# Altium footprint library Smart_DCDC.PCBLIB: 15 footprints
Each footprint in its own frame and in the unit in brackets; x right, y up, seen from the top. Pads: shape width x height; smd on the part's side, far side on the other; paste and mask are expansions set on the pad; w line width, h text height; cw(c..) or ccw(c..) is an arc to the next point about the centre after c.
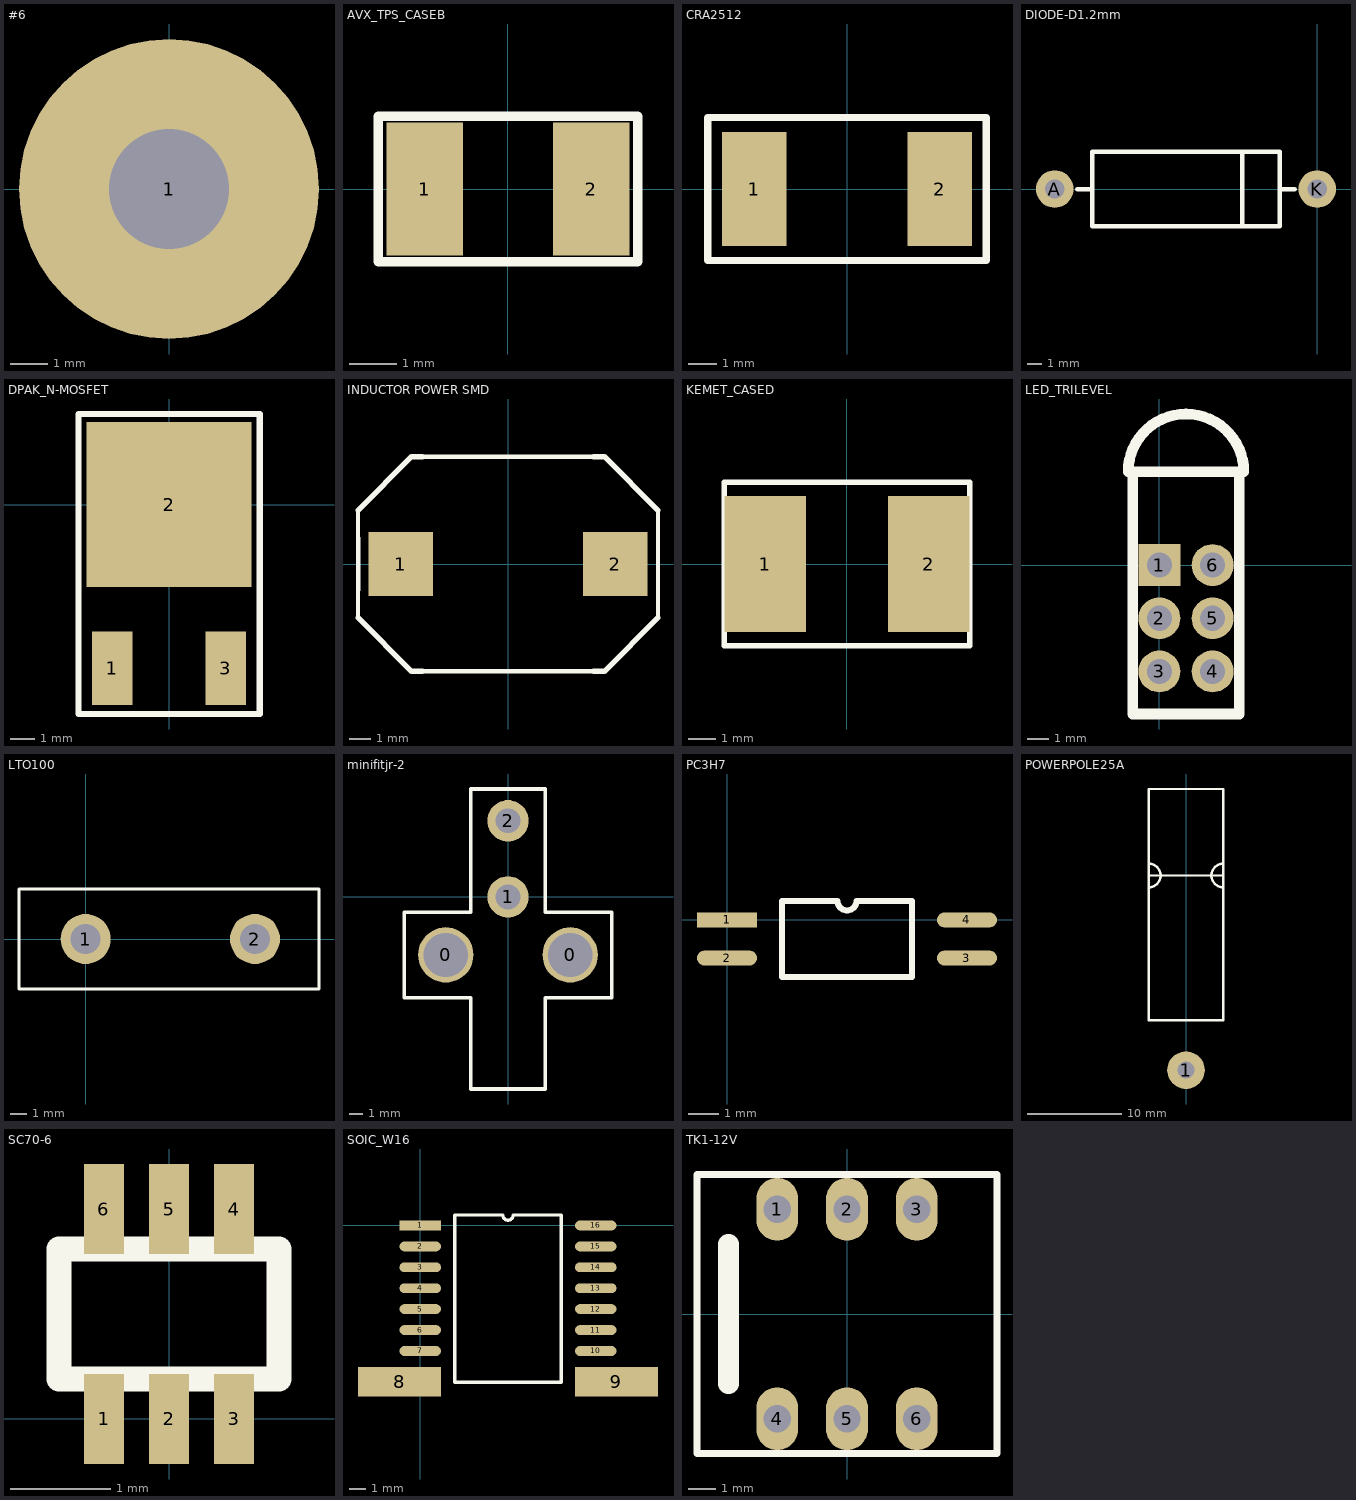
[diagram p0: the footprints below, top view; thin cyan lines are the x and y axes]

## #6 [mm]
pads (1):
  round 8 hole 3.2: 1(0,0)

## AVX_TPS_CASEB [mm]
pads (2):
  rect 1.6x2.8 smd: 1(-1.75,0) 2(1.75,0)
Top Overlay:
  lines w0.2: -2.728,-1.524 -2.728,0 -2.728,1.524 2.728,1.524 2.728,-1.524 -2.728,-1.524

## CRA2512 [mil]
pads (2):
  rect 90x160 smd: 1(-130,0) 2(130,0)
Top Overlay:
  lines w10: -195,-100 195,-100 195,100 -195,100 -195,0 -195,-100

## DIODE-D1.2mm [mm]
pads (2):
  round 2.54 hole 1.3: A(-17.78,0) K(0,0)
Top Overlay:
  lines w0.305: -16.256,0 -15.24,0 ; -5.08,-2.54 -5.08,2.54 ; -2.54,0 -1.524,0 ; -15.24,-2.54 -15.24,2.54 -2.54,2.54 -2.54,-2.54 -15.24,-2.54

## DPAK_N-MOSFET [mm] "STD12NF06L"
height 2
pads (3):
  rect 1.65x3 smd: 1(-2.3,-6.65) 3(2.3,-6.65)
  rect 6.7x6.7 smd: 2(0,0)
Top Overlay:
  lines w0.254: -3.683,-8.509 -3.683,3.683 3.683,3.683 3.683,-8.509 -3.683,-8.509

## INDUCTOR POWER SMD [mm]
pads (2):
  rect 3x3 smd: 1(-5,0) 2(5,0)
Top Overlay:
  lines w0.2: -6.992,-2.5 -6.985,0 -6.992,2.5 ; -4,-5 4,-5 ; -4,5 4,5 ; 6.992,-2.5 6.992,2.5
  lines w0.254: -6.992,-2.5 -4.492,-5 -4,-5 ; -6.992,2.5 -4.492,5 -4,5 ; 4,-5 4.492,-5 6.992,-2.5 ; 4,5 4.492,5 6.992,2.5

## KEMET_CASED [mm]
height 3
pads (2):
  rect 3x5 smd: 1(-3,0) 2(3,0)
Top Overlay:
  lines w0.2: -4.5,-3 -4.5,0 -4.5,3 4.5,3 4.5,-3 -4.5,-3

## LED_TRILEVEL [mm]
pads (6):
  rect 2x2 hole 1.2: 1(0,0)
  round 2 hole 1.2: 2(0,-2.54) 3(0,-5.08) 4(2.54,-5.08) 5(2.54,-2.54) 6(2.54,0)
Top Overlay:
  lines w0.508: -1.49,4.45 cw(c1.27,4.45) 4.03,4.45 ; -1.27,-7.11 -1.27,4.45 3.81,4.45 3.81,-7.11 -1.27,-7.11

## LTO100 [mm]
height 36
pads (2):
  round 3 hole 1.8: 1(0,0) 2(10.16,0)
Top Overlay:
  lines w0.2: -4,-3 -4,3 14,3 14,-3 -4,-3

## minifitjr-2 [mm]
height 15
pads (4):
  round 4 hole 3.2: 0(-4.5,-4.2) 0(4.5,-4.2)
  round 3 hole 1.8: 1(0,0) 2(0,5.5)
Top Overlay:
  lines w0.254: -7.5,-7.3 -7.5,-1.1 -2.7,-1.1 -2.7,7.8 2.7,7.8 2.7,-1.1 7.5,-1.1 7.5,-7.3 2.7,-7.3 2.7,-13.9 -2.7,-13.9 -2.7,-7.3 -7.5,-7.3

## PC3H7 [mm]
pads (4):
  rect 2x0.5 smd: 1(0,0)
  oval 2x0.5 smd: 2(0,-1.27) 3(8,-1.27) 4(8,0)
Top Overlay:
  lines w0.2: 1.835,-1.905 1.835,0.635 3.682,0.635 ccw(c4,0.635) 4.317,0.635 6.165,0.635 6.165,-1.905 1.835,-1.905

## POWERPOLE25A [mm]
height 10
pads (1):
  round 4 hole 1.8: 1(0,13.589)
Top Overlay:
  lines w0.254: -3.95,33.05 ccw(c-3.95,34.3) -3.95,35.55 ; -3.95,34.3 3.95,34.29 ; 3.95,33.05 cw(c3.95,34.3) 3.95,35.55 ; -3.95,18.9 -3.95,43.5 3.95,43.5 3.95,18.9 -3.95,18.9

## SC70-6 [mm]
pads (6):
  rect 0.4x0.9 smd: 1(-0.65,0) 2(0,0) 3(0.65,0) 4(0.65,2.1) 5(0,2.1) 6(-0.65,2.1)
Top Overlay:
  lines w0.254: -1.1,0.4 -1.1,1.7 1.1,1.7 1.1,0.4 -1.1,0.4

## SOIC_W16 [mm]
pads (16):
  rect 2.52x0.6 smd: 1(0,0)
  oval 2.52x0.6 smd: 2(0,-1.27) 3(0,-2.54) 4(0,-3.81) 5(0,-5.08) 6(0,-6.35) 7(0,-7.62) 10(10.65,-7.62) 11(10.65,-6.35) 12(10.65,-5.08) 13(10.65,-3.81) 14(10.65,-2.54) 15(10.65,-1.27) 16(10.65,0)
  rect 5.04x1.8 smd: 8(-1.26,-9.49) 9(11.91,-9.49)
Top Overlay:
  lines w0.2: 2.095,-9.525 2.095,0.635 5.007,0.635 ccw(c5.325,0.635) 5.642,0.635 8.555,0.635 8.555,-9.525 2.095,-9.525

## TK1-12V [mil]
pads (6):
  oval 60x90 hole 39.37: 1(-100,150) 2(0,150) 3(100,150) 4(-100,-150) 5(0,-150) 6(100,-150)
Top Overlay:
  lines w10: -215,-200 -215,200 215,200 215,-200 -215,-200
  lines w30: -170,-100 -170,100